# Altium footprint library AdaptateurDIP.PcbLib: 3 footprints
Each footprint in its own frame and in the unit in brackets; x right, y up, seen from the top. Pads: shape width x height; smd on the part's side, far side on the other; paste and mask are expansions set on the pad; w line width, h text height; cw(c..) or ccw(c..) is an arc to the next point about the centre after c.
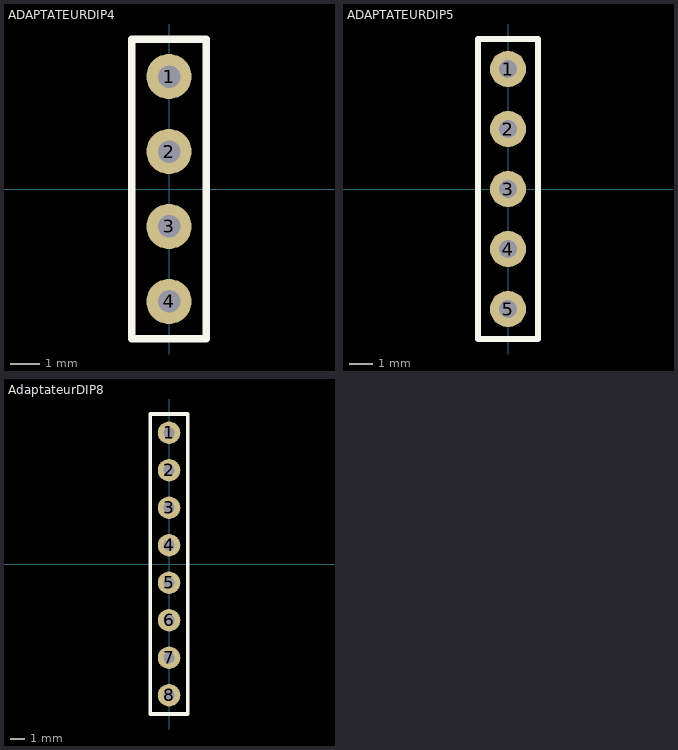
[diagram p0: the footprints below, top view; thin cyan lines are the x and y axes]

## ADAPTATEURDIP4 [mil]
height 196.85
pads (4):
  round 60 hole 30: 1(0,150) 2(0,50) 3(0,-50) 4(0,-150)
Top Overlay:
  lines w10: -50,-200 -50,200 50,200 50,-200 -50,-200

## ADAPTATEURDIP5 [mil]
height 157.48
pads (5):
  round 60 hole 30: 1(0,200) 2(0,100) 3(0,0) 4(0,-100) 5(0,-200)
Top Overlay:
  lines w10: -50,-250 50,-250 50,250 -50,250 -50,-250

## AdaptateurDIP8 [mil]
pads (8):
  round 60 hole 30: 1(0,350) 2(0,250) 3(0,150) 4(0,50) 5(0,-50) 6(0,-150) 7(0,-250) 8(0,-350)
Top Overlay:
  lines w10: -50,-400 50,-400 50,400 -50,400 -50,-400